# Altium integrated library Library Modul.IntLib: 1 symbol
Pins are listed as number, name and electrical type; pins without a type are passive.

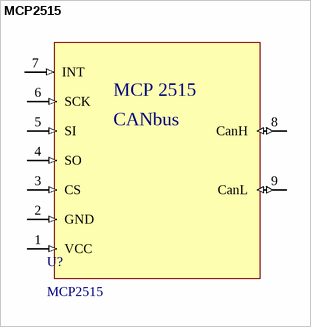
[diagram p0: symbol MCP2515]

## MCP2515
designator U?
footprint MCP2515
pins: 1 VCC (in), 2 GND (in), 3 CS (in), 4 SO (in), 5 SI (in), 6 SCK (in), 7 INT (in), 8 CanH (io), 9 CanL (io)
text: MCP 2515; CANbus